# EAGLE library part 74LVC1G175DBVRG4 (library SamacSys_Parts)
Flip Flop D-Type Pos-Edge 1-Element 6-Pin SOT-23 T/R Source: Datasheet <https://www.arrow.com/en/products/74lvc1g175dbvrg4/texas-instruments>
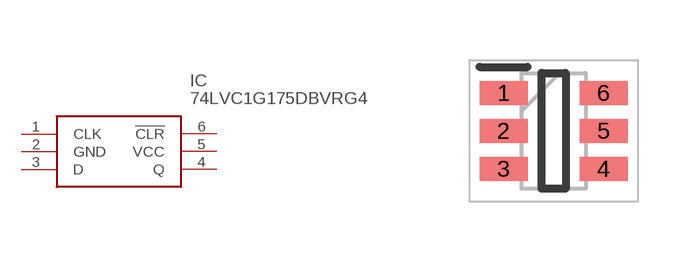
[diagram p118: symbol with the pads of SOT95P280X145-6N; footprint SOT95P280X145-6N]

Designator prefix IC

## 74LVC1G175DBVRG4 (DESCRIPTION: Flip Flop D-Type Pos-Edge 1-Element 6-Pin SOT-23 T/R; HEIGHT: 1.45mm; MANUFACTURER_NAME: Texas Instruments; MANUFACTURER_PART_NUMBER: 74LVC1G175DBVRG4; MOUSER_PART_NUMBER: 595-74LVC1G175DBVRG4; MOUSER_PRICE-STOCK: https://www.mouser.com/Search/Refine.aspx?Keyword=595-74LVC1G175DBVRG4)  [SOT95P280X145-6N]
1  CLK
2  GND
3  D
4  Q
5  VCC
6  !CLR

## Footprint SOT95P280X145-6N (pad centres in mm)
DBV000a
smd 1.2 x 0.6: 1 -1.25,0.95; 2 -1.25,0; 3 -1.25,-0.95; 4 1.25,-0.95; 5 1.25,0; 6 1.25,0.95